# EAGLE library part 2X5 (library con-amp-micro-mate-n-lock)
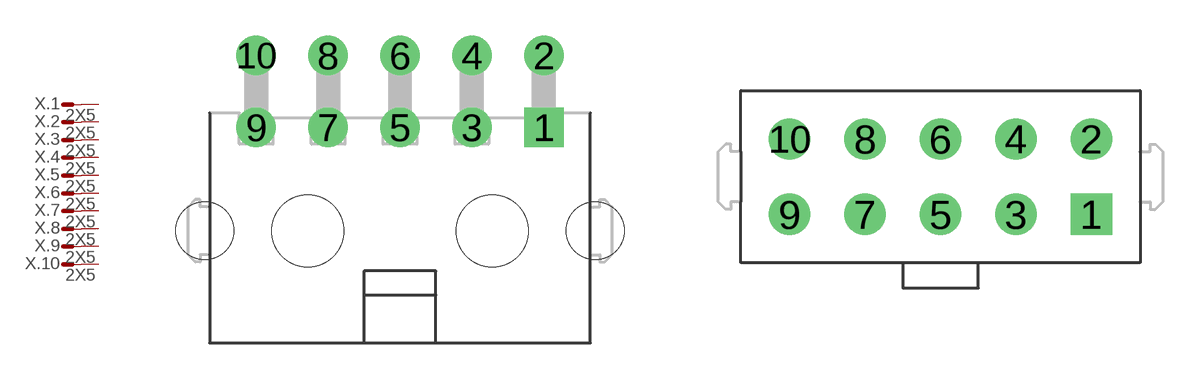
[diagram p9: symbol with the pads of 4-794618-0; footprints 4-794618-0, 4-794630-0]

Designator prefix X; gates .1=M .2=M .3=M .4=M .5=M .6=M .7=M .8=M .9=M .10=M

## 2X5-A  [4-794618-0]
1  .1:S  pas
2  .2:S  pas
3  .3:S  pas
4  .4:S  pas
5  .5:S  pas
6  .6:S  pas
7  .7:S  pas
8  .8:S  pas
9  .9:S  pas
10  .10:S  pas

## 2X5-B  [4-794630-0]
Pads as for 4-794618-0

## 2X5-C  [4-794677-0]
Pads as for 4-794618-0

## 2X5-D  [4-794680-0]
Pads as for 4-794618-0

## Footprint 4-794618-0 (pad centres in mm)
drill 1.1 square: 1 0,0
drill 1.1 round: 2 0,3; 3 -3,0; 4 -3,3; 5 -6,0; 6 -6,3; 7 -9,0; 8 -9,3; 9 -12,0; 10 -12,3
hole 2.4 at 2.15,-4.32
hole 2.4 at -14.15,-4.32
hole 3 at -2.15,-4.32
hole 3 at -9.85,-4.32

## Footprint 4-794630-0 (pad centres in mm)
drill 1.1 square: 1 0,0
drill 1.1 round: 2 0,3; 3 -3,0; 4 -3,3; 5 -6,0; 6 -6,3; 7 -9,0; 8 -9,3; 9 -12,0; 10 -12,3

## Footprint 4-794677-0 (pad centres in mm)
drill 1.1 square: 1 0,0
drill 1.1 round: 2 0,3; 3 -3,0; 4 -3,3; 5 -6,0; 6 -6,3; 7 -9,0; 8 -9,3; 9 -12,0; 10 -12,3
hole 2.4 at 2.15,-4.32
hole 2.4 at -14.15,-4.32

## Footprint 4-794680-0 (pad centres in mm)
drill 1.1 square: 1 0,0
drill 1.1 round: 2 0,3; 3 -3,0; 4 -3,3; 5 -6,0; 6 -6,3; 7 -9,0; 8 -9,3; 9 -12,0; 10 -12,3
hole 2.4 at -14.15,1.5
hole 2.4 at 2.15,1.5